# Altium integrated library B2B-PH-SM4-TB_LF__SN_.IntLib: 1 symbol
Pins are listed as number, name and electrical type; pins without a type are passive.

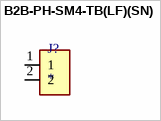
[diagram p0: symbol B2B-PH-SM4-TB(LF)(SN)]

## B2B-PH-SM4-TB(LF)(SN)
designator J?
Connector Header Surface Mount 2 position 0.079 (2.00mm); MF: JST Sales; MP: B2B-PH-SM4-TB(LF)(SN); SnapEDA_Link: https://www.snapeda.com/parts/B2B-PH-SM4-TB(LF)(SN)/JST+Sales+America+Inc./view-part/?ref=snap; Package: NON STANDARD-2 JST; Value: *; Check_prices: https://www.snapeda.com/parts/B2B-PH-SM4-TB(LF)(SN)/JST+Sales+America+Inc./view-part/?ref=eda
footprint B2B-PH-SM4-TB(LF)(SN)
pins: 1 (io), 2 (io)